# Altium footprint library Resistors_Ceramic_SMD.PcbLib: 36 footprints (part 3 of 3)
Each footprint in its own frame and in the unit in brackets; x right, y up, seen from the top. Pads: shape width x height; smd on the part's side, far side on the other; paste and mask are expansions set on the pad; w line width, h text height; cw(c..) or ccw(c..) is an arc to the next point about the centre after c.
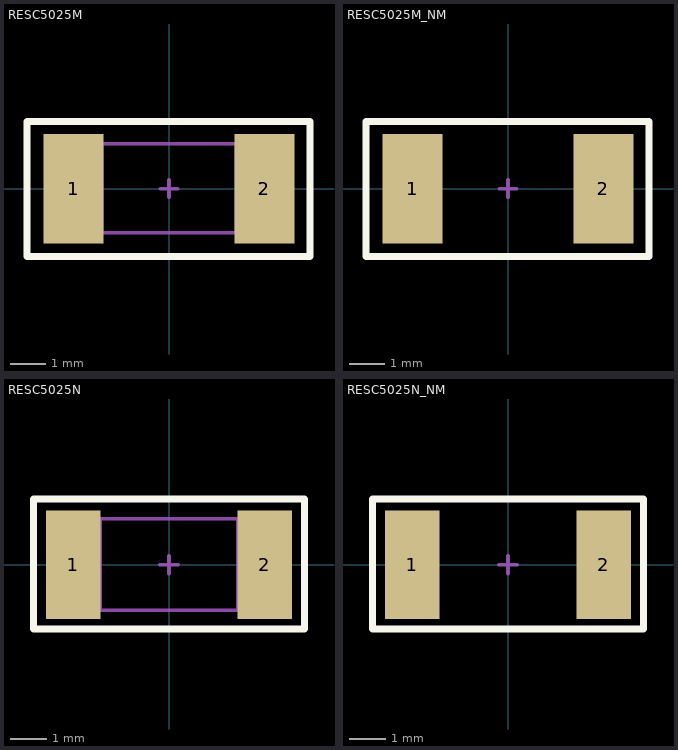
[diagram p2: the footprints below, top view; thin cyan lines are the x and y axes]

## RESC5025M [mm] "Chip Resistor, Body 5.0x2.5mm, IPC High Density"
height 0.7
pads (2):
  rect 1.7x3.1 smd: 1(-2.7,0) 2(2.7,0)
Top Overlay:
  lines w0.2: -4.025,-1.925 4,-1.925 4,1.9 -4.025,1.9 -4.025,-1.925
Top Package:
  lines w0.1: -1.9,-1.25 -1.9,1.275 ; 1.9,-1.25 1.9,1.275 ; -2.5,-1.25 -2.5,1.275 2.5,1.275 2.5,-1.25 -2.5,-1.25
Top Border:
  lines w0.1: -0.25,0 0.25,0 ; 0,-0.25 0,0.25 ; -4.025,-1.925 -4.025,1.9 4,1.9 4,-1.925 -4.025,-1.925
3D body "RES 2010.step": height 0.55, standoff 0, extent -2.5,-1.26 2.5,1.26

## RESC5025M_NM [mm] "Chip Resistor, Body 5.0x2.5mm, IPC High Density"
height 0.7
pads (2):
  rect 1.7x3.1 smd: 1(-2.7,0) 2(2.7,0)
Top Overlay:
  lines w0.2: -4.025,-1.925 -4.025,1.9 4,1.9 4,-1.925 -4.025,-1.925
Top Border:
  lines w0.1: -0.25,0 0.25,0 ; 0,-0.25 0,0.25 ; -4.025,-1.925 -4.025,1.9 4,1.9 4,-1.925 -4.025,-1.925

## RESC5025N [mm] "Chip Resistor, Body 5.0x2.5mm, IPC High Density"
height 0.7
pads (2):
  rect 1.5x3 smd: 1(-2.65,0) 2(2.65,0)
Top Overlay:
  lines w0.2: -3.75,-1.775 -3.75,1.825 3.75,1.825 3.75,-1.775 -3.75,-1.775
Top Package:
  lines w0.1: -1.9,-1.25 -1.9,1.275 ; 1.9,-1.25 1.9,1.275 ; -2.5,-1.25 2.5,-1.25 2.5,1.275 -2.5,1.275 -2.5,-1.25
Top Border:
  lines w0.1: -0.25,0 0.25,0 ; 0,-0.25 0,0.25 ; -3.75,-1.775 -3.75,1.825 3.75,1.825 3.75,-1.775 -3.75,-1.775
3D body "RES 2010.step": height 0.55, standoff 0, extent -2.5,-1.26 2.5,1.26

## RESC5025N_NM [mm] "Chip Resistor, Body 5.0x2.5mm, IPC High Density"
height 0.7
pads (2):
  rect 1.5x3 smd: 1(-2.65,0) 2(2.65,0)
Top Overlay:
  lines w0.2: -3.75,-1.775 3.75,-1.775 3.75,1.825 -3.75,1.825 -3.75,-1.775
Top Border:
  lines w0.1: -0.25,0 0.25,0 ; 0,-0.25 0,0.25 ; -3.75,-1.775 3.75,-1.775 3.75,1.825 -3.75,1.825 -3.75,-1.775